# Altium footprint library SamacSys.PcbLib: 11 footprints
Each footprint in its own frame and in the unit in brackets; x right, y up, seen from the top. Pads: shape width x height; smd on the part's side, far side on the other; paste and mask are expansions set on the pad; w line width, h text height; cw(c..) or ccw(c..) is an arc to the next point about the centre after c.
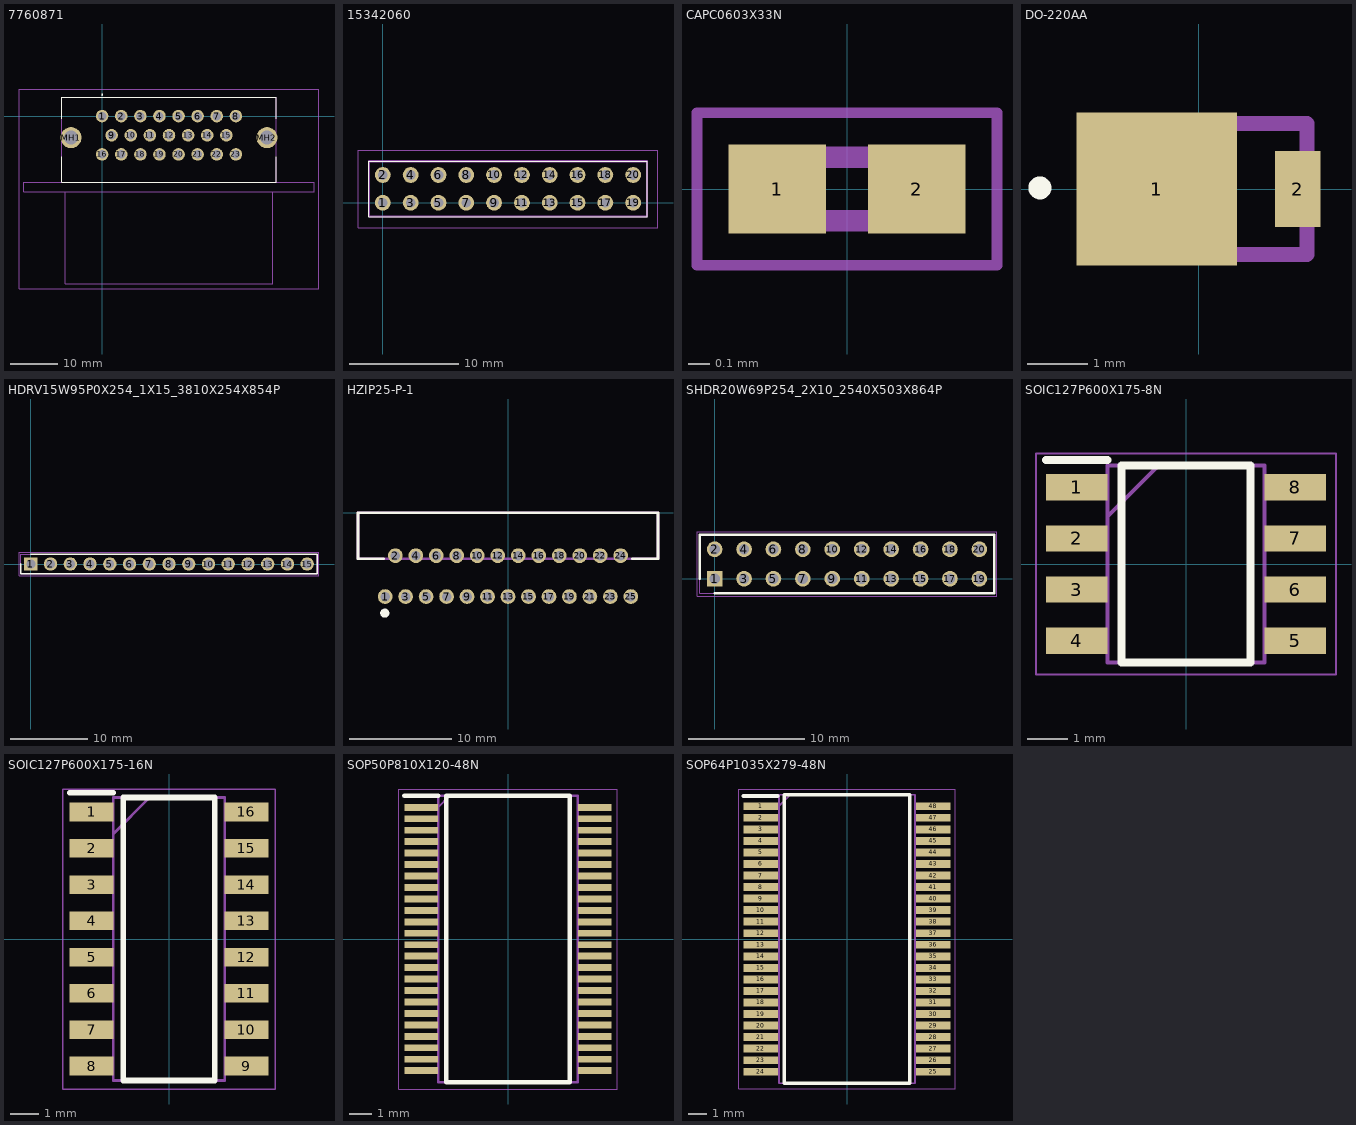
[diagram p0: the footprints below, top view; thin cyan lines are the x and y axes]

## 7760871 [mm]
pads (25):
  round 2.625 hole 1.75: 1(0,0) 2(4,0) 3(8,0) 4(12,0) 5(16,0) 6(20,0) 7(24,0) 8(28,0) 9(2,-4) 10(6,-4) 11(10,-4) 12(14,-4) 13(18,-4) 14(22,-4) 15(26,-4) 16(0,-8) 17(4,-8) 18(8,-8) 19(12,-8) 20(16,-8) 21(20,-8) 22(24,-8) 23(28,-8)
  round 4.395 hole 2.93: MH1(-6.5,-4.5) MH2(34.5,-4.5)
Top Overlay:
  lines w0.1: -8.5,-8.5 -8.5,-13.8 36.5,-13.8 36.5,-8.5 ; -8.5,-0.5 -8.5,4 36.5,4 36.5,-0.5
  lines w0.2: -0.1,4.5 ccw(c0,4.5) 0.1,4.5 ccw(c0,4.5) -0.1,4.5
Mechanical 13:
  lines w0.2: -7.7,-15.8 -7.7,-35.1 35.7,-35.1 35.7,-15.8 ; -8.5,-13.8 -16.4,-13.8 -16.4,-15.8 44.4,-15.8 44.4,-13.8 36.5,-13.8 ; -8.5,-13.8 -8.5,4 36.5,4 36.5,-13.8 ; -8.5,-13.8 36.5,-13.8
Mechanical 15:
  lines w0.1: -17.4,-36.1 -17.4,5.6 45.4,5.6 45.4,-36.1 -17.4,-36.1
3D body "776087-1.stp": height 0, standoff -37.8, extent -30.4,-16.05 30.4,16.05

## 15342060 [mm]
pads (20):
  round 1.446 hole 0.89: 1(0,0) 2(0,2.54) 3(2.54,0) 4(2.54,2.54) 5(5.08,0) 6(5.08,2.54) 7(7.62,0) 8(7.62,2.54) 9(10.16,0) 10(10.16,2.54) 11(12.7,0) 12(12.7,2.54) 13(15.24,0) 14(15.24,2.54) 15(17.78,0) 16(17.78,2.54) 17(20.32,0) 18(20.32,2.54) 19(22.86,0) 20(22.86,2.54)
Top Overlay:
  lines w0.1: -1.27,-1.27 24.13,-1.27 24.13,3.785 -1.27,3.785 -1.27,-1.27
Mechanical 13:
  lines w0.2: -1.27,-1.245 24.13,-1.245 24.13,3.785 -1.27,3.785 -1.27,-1.245
Mechanical 15:
  lines w0.1: -2.27,-2.27 25.13,-2.27 25.13,4.785 -2.27,4.785 -2.27,-2.27
3D body "1-534206-0.stp": height 8.64, standoff -5, extent -1.27,-1.245 24.13,3.785

## CAPC0603X33N [mm]
pads (2):
  rect 0.46x0.42 smd: 1(-0.33,0) 2(0.33,0)
Mechanical 13:
  lines w0.1: -0.3,-0.15 -0.3,0.15 0.3,0.15 0.3,-0.15 -0.3,-0.15
Mechanical 15:
  lines w0.05: -0.71,-0.36 -0.71,0.36 0.71,0.36 0.71,-0.36 -0.71,-0.36
3D body "GRM0332C1E100JD01D.stp": height 0.33, standoff 0, extent -0.3,-0.15 0.3,0.15

## DO-220AA [mil]
pads (2):
  rect 105.12x100 smd: 1(-27.5,0)
  rect 30x50 smd: 2(65.06,0)
Top Overlay:
  circle w10: c-104.06,0.75 r2.55
Mechanical 13:
  lines w10: -71.06,-42.91 71.06,-42.91 71.06,42.91 -71.06,42.91 -71.06,-42.91

## HDRV15W95P0X254_1X15_3810X254X854P [mm]
pads (15):
  rect 1.725x1.725 hole 1.15: 1(0,0)
  round 1.725 hole 1.15: 2(2.54,0) 3(5.08,0) 4(7.62,0) 5(10.16,0) 6(12.7,0) 7(15.24,0) 8(17.78,0) 9(20.32,0) 10(22.86,0) 11(25.4,0) 12(27.94,0) 13(30.48,0) 14(33.02,0) 15(35.56,0)
Top Overlay:
  lines w0.2: -1.27,0 -1.27,-1.27 36.83,-1.27 36.83,1.27 0,1.27
Mechanical 13:
  lines w0.1: -1.27,-1.27 36.83,-1.27 36.83,1.27 -1.27,1.27 -1.27,-1.27
Mechanical 15:
  lines w0.05: -1.52,-1.52 37.08,-1.52 37.08,1.52 -1.52,1.52 -1.52,-1.52
3D body "61301511121.stp": height 8.54, standoff -3, extent -1.27,-1.27 36.83,1.27

## HZIP25-P-1 [mm]
pads (25):
  round 1.44 hole 0.94: 1(-12,-8.2) 2(-11,-4.2) 3(-10,-8.2) 4(-9,-4.2) 5(-8,-8.2) 6(-7,-4.2) 7(-6,-8.2) 8(-5,-4.2) 9(-4,-8.2) 10(-3,-4.2) 11(-2,-8.2) 12(-1,-4.2) 13(0,-8.2) 14(1,-4.2) 15(2,-8.2) 16(3,-4.2) 17(4,-8.2) 18(5,-4.2) 19(6,-8.2) 20(7,-4.2) 21(8,-8.2) 22(9,-4.2) 23(10,-8.2) 24(11,-4.2) 25(12,-8.2)
Top Overlay:
  circle w0.45: c-12.037,-9.815 r0.221
  lines w0.254: -12.141,-4.5 -14.65,-4.5 -14.65,0 14.65,0 14.65,-4.5 12.141,-4.5
Mechanical 13:
  lines w0.254: -14.65,-4.5 -14.65,0 14.65,0 14.65,-4.5 -14.65,-4.5

## SHDR20W69P254_2X10_2540X503X864P [mm]
pads (20):
  rect 1.35x1.35 hole 0.9: 1(0,0)
  round 1.35 hole 0.9: 2(0,2.54) 3(2.54,0) 4(2.54,2.54) 5(5.08,0) 6(5.08,2.54) 7(7.62,0) 8(7.62,2.54) 9(10.16,0) 10(10.16,2.54) 11(12.7,0) 12(12.7,2.54) 13(15.24,0) 14(15.24,2.54) 15(17.78,0) 16(17.78,2.54) 17(20.32,0) 18(20.32,2.54) 19(22.86,0) 20(22.86,2.54)
Top Overlay:
  lines w0.2: -1.27,0 -1.27,3.785 24.13,3.785 24.13,-1.245 0,-1.245
Mechanical 13:
  lines w0.1: -1.27,-1.245 24.13,-1.245 24.13,3.785 -1.27,3.785 -1.27,-1.245
Mechanical 15:
  lines w0.05: -1.52,-1.495 24.38,-1.495 24.38,4.035 -1.52,4.035 -1.52,-1.495
3D body "6-534206-0.stp": height 0, standoff -11.56, extent -12.7,-2.515 12.7,2.515

## SOIC127P600X175-8N [mm]
pads (8):
  rect 1.525x0.65 smd: 1(-2.712,1.905) 2(-2.712,0.635) 3(-2.712,-0.635) 4(-2.712,-1.905) 5(2.712,-1.905) 6(2.712,-0.635) 7(2.712,0.635) 8(2.712,1.905)
Top Overlay:
  lines w0.2: -3.475,2.58 -1.95,2.58 ; -1.6,-2.45 -1.6,2.45 1.6,2.45 1.6,-2.45 -1.6,-2.45
Mechanical 13:
  lines w0.1: -1.95,1.18 -0.68,2.45 ; -1.95,-2.45 -1.95,2.45 1.95,2.45 1.95,-2.45 -1.95,-2.45
Mechanical 15:
  lines w0.05: -3.725,-2.75 -3.725,2.75 3.725,2.75 3.725,-2.75 -3.725,-2.75
3D body "NE555DR.stp": height 1.75, standoff 0, extent -3,-2.45 3,2.45

## SOIC127P600X175-16N [mm]
pads (16):
  rect 1.525x0.65 smd: 1(-2.712,4.445) 2(-2.712,3.175) 3(-2.712,1.905) 4(-2.712,0.635) 5(-2.712,-0.635) 6(-2.712,-1.905) 7(-2.712,-3.175) 8(-2.712,-4.445) 9(2.712,-4.445) 10(2.712,-3.175) 11(2.712,-1.905) 12(2.712,-0.635) 13(2.712,0.635) 14(2.712,1.905) 15(2.712,3.175) 16(2.712,4.445)
Top Overlay:
  lines w0.2: -3.475,5.12 -1.95,5.12 ; -1.6,-4.95 1.6,-4.95 1.6,4.95 -1.6,4.95 -1.6,-4.95
Mechanical 13:
  lines w0.1: -1.95,3.68 -0.68,4.95 ; -1.95,-4.95 1.95,-4.95 1.95,4.95 -1.95,4.95 -1.95,-4.95
Mechanical 15:
  lines w0.05: -3.725,-5.25 3.725,-5.25 3.725,5.25 -3.725,5.25 -3.725,-5.25
3D body "VNH7070ASTR.stp": height 1.75, standoff 0, extent -3,-4.95 3,4.95

## SOP50P810X120-48N [mm]
pads (48):
  rect 1.475x0.3 smd: 1(-3.788,5.75) 2(-3.788,5.25) 3(-3.788,4.75) 4(-3.788,4.25) 5(-3.788,3.75) 6(-3.788,3.25) 7(-3.788,2.75) 8(-3.788,2.25) 9(-3.788,1.75) 10(-3.788,1.25) 11(-3.788,0.75) 12(-3.788,0.25) 13(-3.788,-0.25) 14(-3.788,-0.75) 15(-3.788,-1.25) 16(-3.788,-1.75) 17(-3.788,-2.25) 18(-3.788,-2.75) 19(-3.788,-3.25) 20(-3.788,-3.75) 21(-3.788,-4.25) 22(-3.788,-4.75) 23(-3.788,-5.25) 24(-3.788,-5.75) 25(3.788,-5.75) 26(3.788,-5.25) 27(3.788,-4.75) 28(3.788,-4.25) 29(3.788,-3.75) 30(3.788,-3.25) 31(3.788,-2.75) 32(3.788,-2.25) 33(3.788,-1.75) 34(3.788,-1.25) 35(3.788,-0.75) 36(3.788,-0.25) 37(3.788,0.25) 38(3.788,0.75) 39(3.788,1.25) 40(3.788,1.75) 41(3.788,2.25) 42(3.788,2.75) 43(3.788,3.25) 44(3.788,3.75) 45(3.788,4.25) 46(3.788,4.75) 47(3.788,5.25) 48(3.788,5.75)
Top Overlay:
  lines w0.2: -4.525,6.25 -3.05,6.25 ; -2.7,-6.25 -2.7,6.25 2.7,6.25 2.7,-6.25 -2.7,-6.25
Mechanical 13:
  lines w0.1: -3.05,5.75 -2.55,6.25 ; -3.05,-6.25 -3.05,6.25 3.05,6.25 3.05,-6.25 -3.05,-6.25
Mechanical 15:
  lines w0.05: -4.775,-6.55 -4.775,6.55 4.775,6.55 4.775,-6.55 -4.775,-6.55
3D body "GTL2000DGG,118.stp": height 1.2, standoff 0, extent -4.05,-6.25 4.05,6.25

## SOP64P1035X279-48N [mm]
pads (48):
  rect 1.9x0.435 smd: 1(-4.75,7.302) 2(-4.75,6.668) 3(-4.75,6.032) 4(-4.75,5.398) 5(-4.75,4.762) 6(-4.75,4.128) 7(-4.75,3.492) 8(-4.75,2.858) 9(-4.75,2.222) 10(-4.75,1.588) 11(-4.75,0.952) 12(-4.75,0.318) 13(-4.75,-0.318) 14(-4.75,-0.952) 15(-4.75,-1.588) 16(-4.75,-2.222) 17(-4.75,-2.858) 18(-4.75,-3.492) 19(-4.75,-4.128) 20(-4.75,-4.762) 21(-4.75,-5.398) 22(-4.75,-6.032) 23(-4.75,-6.668) 24(-4.75,-7.302) 25(4.75,-7.302) 26(4.75,-6.668) 27(4.75,-6.032) 28(4.75,-5.398) 29(4.75,-4.762) 30(4.75,-4.128) 31(4.75,-3.492) 32(4.75,-2.858) 33(4.75,-2.222) 34(4.75,-1.588) 35(4.75,-0.952) 36(4.75,-0.318) 37(4.75,0.318) 38(4.75,0.952) 39(4.75,1.588) 40(4.75,2.222) 41(4.75,2.858) 42(4.75,3.492) 43(4.75,4.128) 44(4.75,4.762) 45(4.75,5.398) 46(4.75,6.032) 47(4.75,6.668) 48(4.75,7.302)
Top Overlay:
  lines w0.2: -5.7,7.87 -3.8,7.87 ; -3.45,-7.938 -3.45,7.938 3.45,7.938 3.45,-7.938 -3.45,-7.938
Mechanical 13:
  lines w0.1: -3.746,7.302 -3.112,7.938 ; -3.746,-7.938 -3.746,7.938 3.746,7.938 3.746,-7.938 -3.746,-7.938
Mechanical 15:
  lines w0.05: -5.95,-8.251 -5.95,8.251 5.95,8.251 5.95,-8.251 -5.95,-8.251
3D body "74ALVC164245PVG.stp": height 2.79, standoff 0, extent -5.175,-7.938 5.175,7.938